# Altium footprint library Misc.PcbLib: 18 footprints (part 2 of 2)
Each footprint in its own frame and in the unit in brackets; x right, y up, seen from the top. Pads: shape width x height; smd on the part's side, far side on the other; paste and mask are expansions set on the pad; w line width, h text height; cw(c..) or ccw(c..) is an arc to the next point about the centre after c.
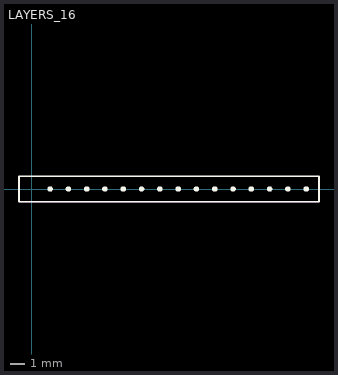
[diagram p1: the footprints below, top view; thin cyan lines are the x and y axes]

## LAYERS_16 [mm] "Copper marking indicating layer ordering"
Top Layer:
  text "1" at -0.635,-0.635 h1.27
Layer 2:
  text "2" at 0.635,-0.635 h1.27
Layer 3:
  text "3" at 1.905,-0.635 h1.27
Layer 4:
  text "4" at 3.175,-0.635 h1.27
Layer 5:
  text "5" at 4.445,-0.635 h1.27
Layer 6:
  text "6" at 5.715,-0.635 h1.27
Layer 7:
  text "7" at 6.985,-0.635 h1.27
Layer 8:
  text "8" at 8.255,-0.635 h1.27
Layer 9:
  text "9" at 9.525,-0.635 h1.27
Layer 10:
  text "10" at 10.795,-0.635 h1.27
Layer 11:
  text "11" at 12.065,-0.635 h1.27
Layer 12:
  text "12" at 13.335,-0.635 h1.27
Layer 13:
  text "13" at 14.605,-0.635 h1.27
Layer 14:
  text "14" at 15.875,-0.635 h1.27
Layer 15:
  text "15" at 17.145,-0.635 h1.27
Bottom Layer:
  text "16" at 18.415,-0.635 h1.27
Top Overlay:
  circle w0.254: c19.05,0 r0.064
  circle w0.254: c17.78,0 r0.064
  circle w0.254: c16.51,0 r0.064
  circle w0.254: c15.24,0 r0.064
  circle w0.254: c13.97,0 r0.064
  circle w0.254: c12.7,0 r0.064
  circle w0.254: c11.43,0 r0.064
  circle w0.254: c10.16,0 r0.064
  circle w0.254: c8.89,0 r0.064
  circle w0.254: c7.62,0 r0.064
  circle w0.254: c6.35,0 r0.064
  circle w0.254: c5.08,0 r0.064
  circle w0.254: c3.81,0 r0.064
  circle w0.254: c2.54,0 r0.064
  circle w0.254: c1.27,0 r0.064
  lines w0.127: -0.889,-0.889 19.939,-0.889 19.939,0.889 -0.889,0.889 -0.889,-0.889
Top Courtyard (Mech15):
  lines w0.064: -0.889,-0.889 19.939,-0.889 19.939,0.889 -0.889,0.889 -0.889,-0.889
Multi-Layer:
  pour cut-out: -0.762,0.762 19.812,0.762 19.812,-0.762 -0.762,-0.762

## STANDOFF_MTS-20 [mm]
3D body "1128152.stp": height 20.1, standoff 0.01, extent -3.182,-2.756 3.182,2.756